# Altium footprint library ABM8G-13.560MHZ-18-D2Y-T.PcbLib: 1 footprints
Each footprint in its own frame and in the unit in brackets; x right, y up, seen from the top. Pads: shape width x height; smd on the part's side, far side on the other; paste and mask are expansions set on the pad; w line width, h text height; cw(c..) or ccw(c..) is an arc to the next point about the centre after c.
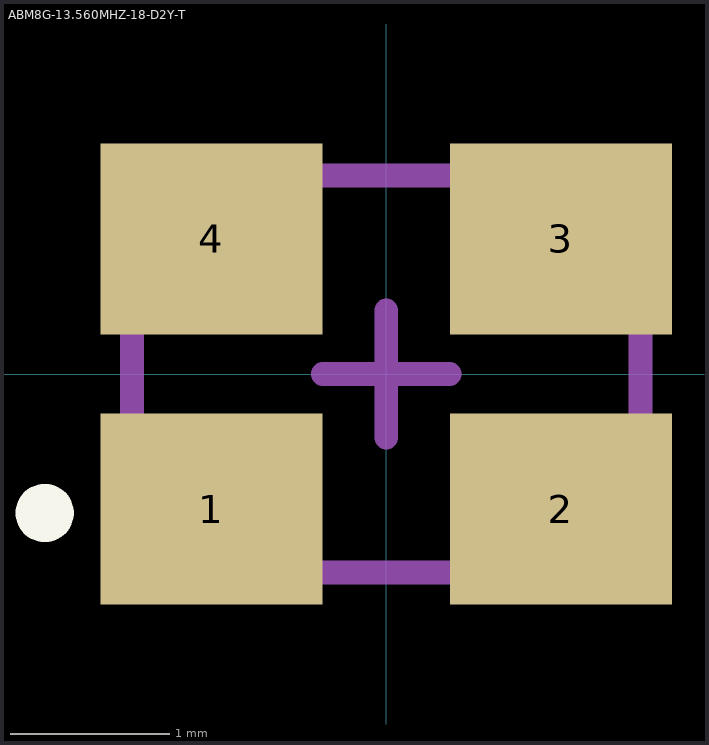
[diagram p0: the footprint, top view; thin cyan lines are the x and y axes]

## ABM8G-13.560MHZ-18-D2Y-T [mm]
pads (4):
  rect 1.4x1.2 smd mask+0.051: 1(-1.1,-0.85) 2(1.1,-0.85) 3(1.1,0.85) 4(-1.1,0.85)
Top Overlay:
  circle w0.254: c-2.15,-0.875 r0.056
Mechanical 13:
  lines w0.15: -1.6,-1.25 -1.6,1.25 1.6,1.25 1.6,-1.25 -1.6,-1.25
Mechanical 15:
  lines w0.15: -0.4,0 0,0 ; 0,-0.4 0,0 ; 0,0.4 0,0 ; 0.4,0 0,0
3D body "ABM8G-13.560MHZ-18-D2Y-T.step": height 1.01, standoff 0, extent -1.6,-1.25 1.6,1.25